# Altium schematic symbol library ROT SWITCH 13POS.SchLib: 1 symbol
Pins are listed as number, name and electrical type; pins without a type are passive.

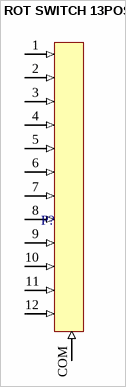
[diagram p0: symbol ROT SWITCH 13POS]

## ROT SWITCH 13POS
designator P?
pins: 1 (in), 2 (in), 3 (in), 4 (in), 5 (in), 6 (in), 7 (in), 8 (in), 9 (in), 10 (in), 11 (in), 12 (in), COM (in)